# Altium schematic symbol library SnapEDAsch.SchLib: 1 symbol
Pins are listed as number, name and electrical type; pins without a type are passive.

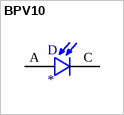
[diagram p0: symbol BPV10]

## BPV10
designator D
Photodiode 940nm 40Â° Radial; MP: BPV10; MF: Vishay; Package: Radial Vishay; DigiKey-Purchase-URL: https://snapeda.com/shop?store=DigiKey&id=243794; SnapEDA_Link: https://www.snapeda.com/parts/BPV10/Vishay/view-part/243794/?ref=snap; Price: None; Availability: Unavailable; Value: *
footprint XDCR_BPV10
pins: A, C